# Altium footprint library MSB-PCB-1R1.PcbLib: 24 footprints (part 1 of 2)
Each footprint in its own frame and in the unit in brackets; x right, y up, seen from the top. Pads: shape width x height; smd on the part's side, far side on the other; paste and mask are expansions set on the pad; w line width, h text height; cw(c..) or ccw(c..) is an arc to the next point about the centre after c.
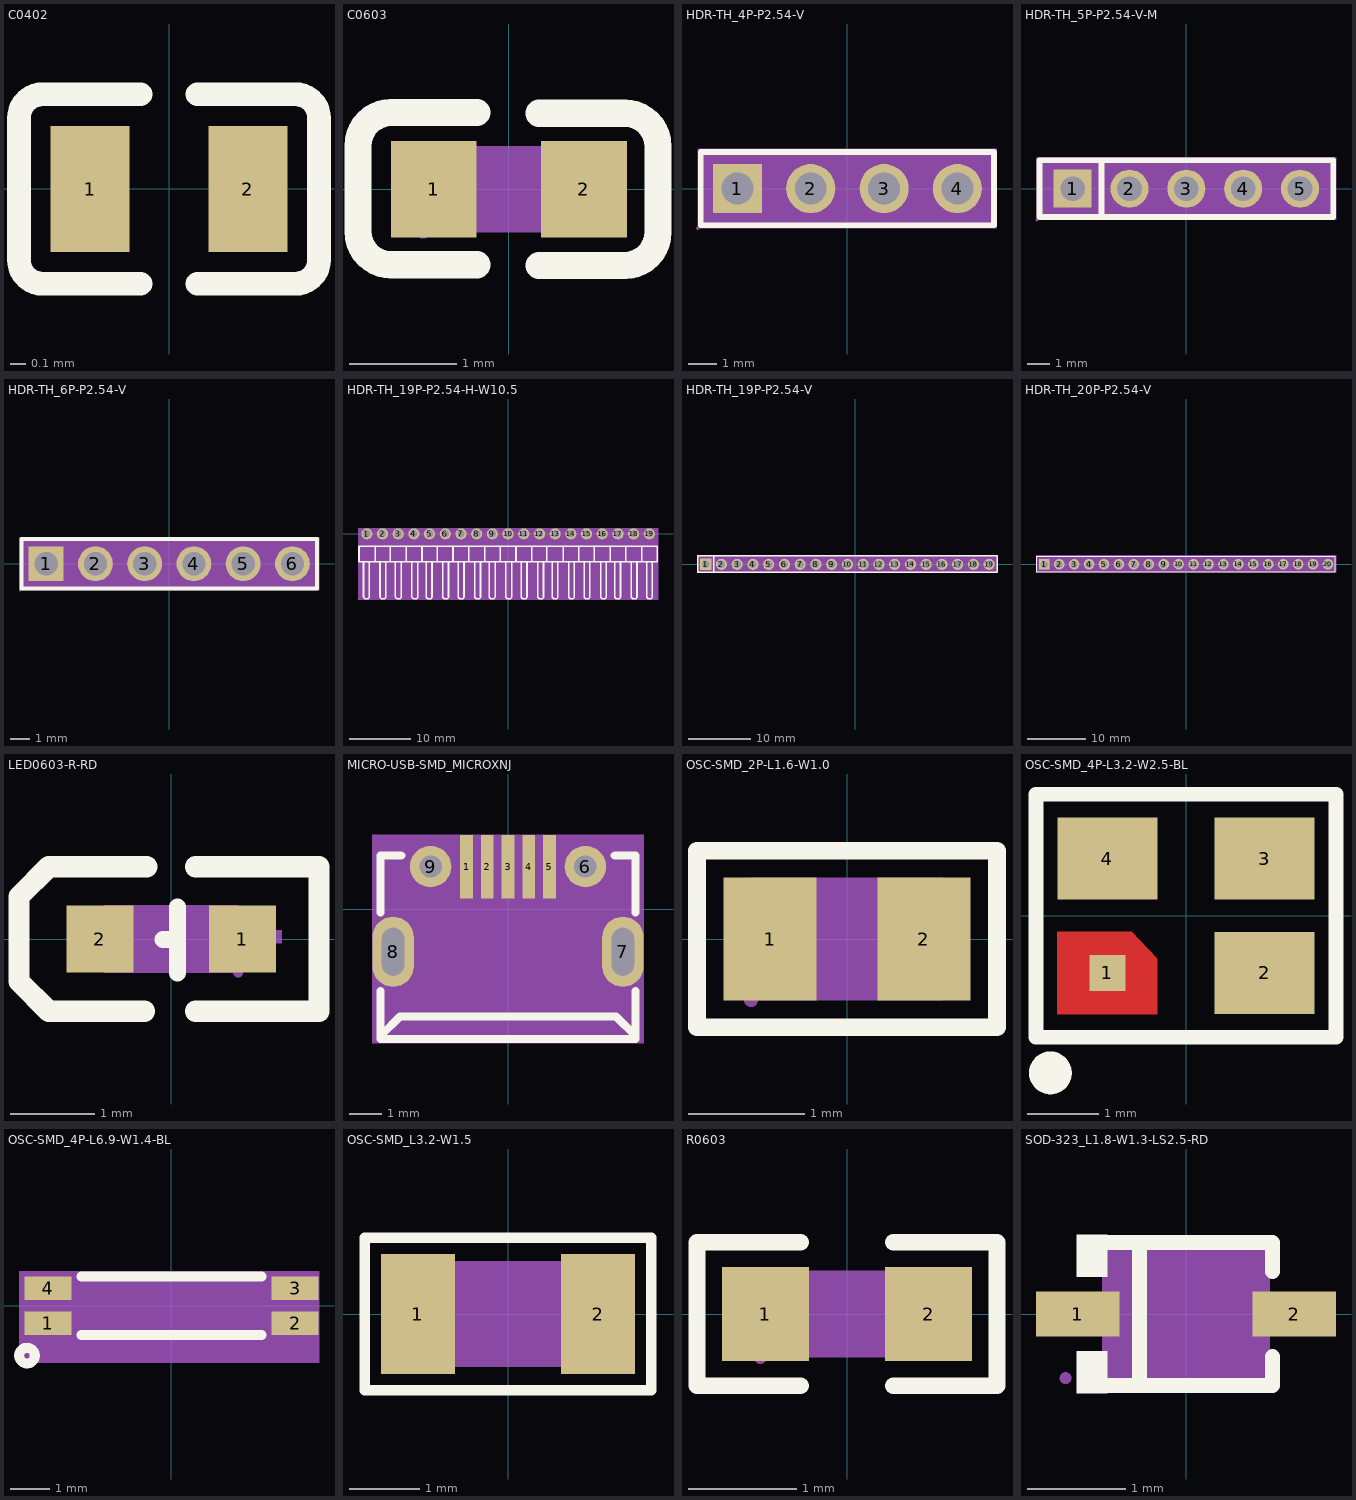
[diagram p0: the footprints below, top view; thin cyan lines are the x and y axes]

## C0402 [mm]
pads (2):
  rect 0.5x0.8 smd: 1(-0.5,0) 2(0.5,0)
Top Overlay:
  lines w0.15: -0.18,-0.6 -0.8,-0.6 cw(c-0.8,-0.45) -0.95,-0.45 -0.95,-0.4 -0.95,0.4 -0.95,0.45 cw(c-0.8,0.45) -0.8,0.6 -0.18,0.6 ; 0.18,-0.6 0.8,-0.6 ccw(c0.8,-0.45) 0.95,-0.45 0.95,-0.4 0.95,0.4 0.95,0.45 ccw(c0.8,0.45) 0.8,0.6 0.18,0.6

## C0603 [mm]
pads (2):
  rect 0.8x0.9 smd: 1(-0.7,0) 2(0.7,0)
Top Overlay:
  lines w0.254: -0.296,-0.704 -1.096,-0.704 cw(c-1.096,-0.394) -1.406,-0.394 -1.405,0.406 cw(c-1.096,0.406) -1.096,0.715 -0.296,0.715 ; 0.28,-0.71 1.08,-0.71 ccw(c1.08,-0.4) 1.39,-0.4 1.39,0.4 ccw(c1.08,0.4) 1.08,0.71 0.28,0.71
Mechanical 4:
  region: -0.8,-0.4 -0.8,0.4 0.8,0.4 0.8,-0.4
Mechanical 5:
  region: -0.8,-0.4 -0.8,0.4 -0.5,0.4 -0.5,-0.4
  region: 0.8,-0.4 0.8,0.4 0.5,0.4 0.5,-0.4
Mechanical 6:
  circle w0.06: c-0.8,-0.4 r0.03

## HDR-TH_4P-P2.54-V [mm]
pads (4):
  rect 1.7x1.7 hole 1.1: 1(-3.81,0)
  round 1.7 hole 1.1: 2(-1.27,0) 3(1.27,0) 4(3.81,0)
Top Overlay:
  lines w0.203: -5.08,-1.27 -5.08,1.27 -3.175,1.27 5.08,1.27 5.08,-1.27 -5.08,-1.27
Mechanical 4:
  region: -5.182,1.372 5.182,1.372 5.182,-1.372 -5.182,-1.372
Mechanical 5:
  circle w0.45: c3.81,0 r0.225
  circle w0.45: c1.27,0 r0.225
  circle w0.45: c-1.27,0 r0.225
  circle w0.45: c-3.81,0 r0.225
Mechanical 6:
  circle w0.06: c-5.182,-1.372 r0.03

## HDR-TH_5P-P2.54-V-M [mm]
pads (5):
  rect 1.7x1.7 hole 1.1: 1(-5.08,0)
  round 1.7 hole 1.1: 2(-2.54,0) 3(0,0) 4(2.54,0) 5(5.08,0)
Top Overlay:
  lines w0.254: -3.786,-1.27 -3.786,1.27 ; -6.56,-1.27 -6.56,1.27 6.56,1.27 6.56,-1.27 -6.56,-1.27
Mechanical 4:
  region: -6.687,1.397 6.687,1.397 6.687,-1.397 -6.687,-1.397
Mechanical 5:
  circle w0.45: c5.08,0 r0.225
  circle w0.45: c2.54,0 r0.225
  circle w0.45: c0,0 r0.225
  circle w0.45: c-2.54,0 r0.225
  circle w0.45: c-5.08,0 r0.225
Mechanical 6:
  circle w0.06: c-6.687,-1.397 r0.03

## HDR-TH_6P-P2.54-V [mm]
pads (6):
  rect 1.8x1.8 hole 1.2: 1(-6.35,0)
  round 1.8 hole 1.2: 2(-3.81,0) 3(-1.27,0) 4(1.27,0) 5(3.81,0) 6(6.35,0)
Top Overlay:
  lines w0.203: -7.62,-1.27 7.62,-1.27 7.62,1.27 -5.715,1.27 -7.62,1.27 -7.62,-1.27
Mechanical 4:
  region: -7.722,1.372 7.722,1.372 7.722,-1.372 -7.722,-1.372
Mechanical 5:
  circle w0.5: c-6.35,0 r0.25
  circle w0.5: c-3.81,0 r0.25
  circle w0.5: c-1.27,0 r0.25
  circle w0.5: c1.27,0 r0.25
  circle w0.5: c3.81,0 r0.25
  circle w0.5: c6.35,0 r0.25
Mechanical 6:
  circle w0.06: c-7.722,-1.372 r0.03

## HDR-TH_19P-P2.54-H-W10.5 [mm]
pads (19):
  round 1.8 hole 1.2: 1(-22.86,0) 2(-20.32,0) 3(-17.78,0) 4(-15.24,0) 5(-12.7,0) 6(-10.16,0) 7(-7.62,0) 8(-5.08,0) 9(-2.54,0) 10(0,0) 11(2.54,0) 12(5.08,0) 13(7.62,0) 14(10.16,0) 15(12.7,0) 16(15.24,0) 17(17.78,0) 18(20.32,0) 19(22.86,0)
Top Overlay:
  lines w0.254: -23.402,-4.5 -23.402,-10.264 -23.166,-10.5 -22.692,-10.5 -22.479,-10.287 -22.479,-4.5 ; -21.511,-4.5 -21.511,-2 ; -20.73,-4.5 -20.73,-10.264 -20.494,-10.5 ; -20.495,-10.5 -20.02,-10.5 -19.807,-10.287 -19.807,-6.54 -19.807,-4.501 ; -19.073,-4.5 -19.073,-2 ; -18.23,-4.5 -18.23,-10.264 -17.994,-10.5 -17.52,-10.5 -17.307,-10.287 -17.307,-4.5 ; -16.499,-4.5 -16.499,-2 ; -15.558,-4.5 -15.558,-10.264 -15.322,-10.5 -14.848,-10.5 -14.635,-10.287 -14.635,-4.5 ; -13.925,-4.5 -13.925,-2 ; -13.23,-4.5 -13.23,-10.264 -12.994,-10.5 -12.52,-10.5 -12.307,-10.287 -12.307,-4.5 ; -11.487,-4.5 -11.487,-2 ; -10.558,-4.5 -10.558,-10.264 -10.322,-10.5 -9.848,-10.5 -9.635,-10.287 -9.635,-6.541 -9.635,-4.501 ; -8.913,-4.5 -8.913,-2 ; -8.058,-4.5 -8.058,-10.264 -7.822,-10.5 -7.348,-10.5 -7.135,-10.287 -7.135,-4.5 ; -6.373,-4.5 -6.373,-2 ; -5.386,-4.5 -5.386,-10.264 -5.15,-10.5 -4.676,-10.5 -4.463,-10.287 -4.463,-4.5 ; -3.765,-4.5 -3.765,-2 ; -3.03,-4.5 -3.03,-10.264 -2.794,-10.5 -2.32,-10.5 -2.107,-10.287 -2.107,-4.5 ; -1.293,-4.5 -1.293,-2 ; -0.358,-4.5 -0.358,-10.264 -0.122,-10.5 0.352,-10.5 0.565,-10.287 0.565,-6.542 0.565,-4.5 ; 1.281,-4.5 1.281,-2 ; 2.142,-4.5 2.142,-10.264 2.378,-10.5 2.852,-10.5 3.065,-10.287 3.065,-4.5 ; 3.855,-4.5 3.855,-2 ; 4.814,-4.5 4.814,-10.264 5.05,-10.5 5.524,-10.5 5.737,-10.287 5.737,-4.5 ; 6.293,-4.5 6.293,-2 ; 7.142,-4.5 7.142,-10.264 7.378,-10.5 7.852,-10.5 8.065,-10.287 8.065,-4.5 ; 8.901,-4.5 8.901,-2 ; 9.814,-4.5 9.814,-10.264 10.05,-10.5 ; 10.049,-10.5 10.524,-10.5 10.737,-10.287 10.737,-6.54 10.737,-4.501 ; 11.475,-4.5 11.475,-2 ; 12.314,-4.5 12.314,-10.264 12.55,-10.5 13.024,-10.5 13.237,-10.287 13.237,-4.5 ; 13.981,-4.5 13.981,-2 ; 14.986,-4.5 14.986,-10.264 15.222,-10.5 15.697,-10.5 15.91,-10.287 15.91,-4.5 ; 16.555,-4.5 16.555,-2 ; 17.27,-4.5 17.27,-10.264 17.506,-10.5 17.98,-10.5 18.193,-10.287 18.193,-4.5 ; 19.027,-4.5 19.027,-2 ; 19.942,-4.5 19.942,-10.264 20.178,-10.5 ; 20.865,-4.501 20.865,-6.54 ; 21.635,-4.5 21.635,-2 ; 22.442,-4.5 22.442,-10.264 22.678,-10.5 23.152,-10.5 23.365,-10.287 23.365,-4.5 ; 24.13,-4.5 -24.13,-4.5 -24.13,-2 24.13,-2 ; 24.141,-4.5 24.141,-2 ; 20.652,-10.5 20.177,-10.5 20.652,-10.5 ; 20.652,-10.5 20.865,-10.287 ; 20.652,-10.5 20.865,-10.287 ; 20.865,-10.287 20.865,-6.54 ; 20.865,-10.287 20.865,-6.54
Mechanical 4:
  region: -24.257,0.9 24.268,0.9 24.268,-10.627 -24.257,-10.627
Mechanical 5:
  circle w0.5: c-22.86,0 r0.25
  circle w0.5: c-20.32,0 r0.25
  circle w0.5: c-17.78,0 r0.25
  circle w0.5: c-15.24,0 r0.25
  circle w0.5: c-12.7,0 r0.25
  circle w0.5: c-10.16,0 r0.25
  circle w0.5: c-7.62,0 r0.25
  circle w0.5: c-5.08,0 r0.25
  circle w0.5: c-2.54,0 r0.25
  circle w0.5: c0,0 r0.25
  circle w0.5: c2.54,0 r0.25
  circle w0.5: c5.08,0 r0.25
  circle w0.5: c7.62,0 r0.25
  circle w0.5: c10.16,0 r0.25
  circle w0.5: c12.7,0 r0.25
  circle w0.5: c15.24,0 r0.25
  circle w0.5: c17.78,0 r0.25
  circle w0.5: c20.32,0 r0.25
  circle w0.5: c22.86,0 r0.25
Mechanical 6:
  circle w0.06: c-24.257,-10.627 r0.03

## HDR-TH_19P-P2.54-V [mm]
pads (19):
  rect 1.8x1.8 hole 1.2: 1(-24.13,0)
  round 1.8 hole 1.2: 2(-21.59,0) 3(-19.05,0) 4(-16.51,0) 5(-13.97,0) 6(-11.43,0) 7(-8.89,0) 8(-6.35,0) 9(-3.81,0) 10(-1.27,0) 11(1.27,0) 12(3.81,0) 13(6.35,0) 14(8.89,0) 15(11.43,0) 16(13.97,0) 17(16.51,0) 18(19.05,0) 19(21.59,0)
Top Overlay:
  lines w0.203: -22.86,-1.27 -22.86,1.397 ; -25.4,-1.27 -25.4,1.397 22.86,1.397 22.86,0.635 22.86,-1.27 -25.4,-1.27
Mechanical 4:
  region: -25.502,1.499 22.86,1.499 22.86,-1.372 -25.502,-1.372
Mechanical 5:
  circle w0.5: c21.59,0 r0.25
  circle w0.5: c19.05,0 r0.25
  circle w0.5: c16.51,0 r0.25
  circle w0.5: c13.97,0 r0.25
  circle w0.5: c11.43,0 r0.25
  circle w0.5: c8.89,0 r0.25
  circle w0.5: c6.35,0 r0.25
  circle w0.5: c3.81,0 r0.25
  circle w0.5: c1.27,0 r0.25
  circle w0.5: c-1.27,0 r0.25
  circle w0.5: c-3.81,0 r0.25
  circle w0.5: c-6.35,0 r0.25
  circle w0.5: c-8.89,0 r0.25
  circle w0.5: c-11.43,0 r0.25
  circle w0.5: c-13.97,0 r0.25
  circle w0.5: c-16.51,0 r0.25
  circle w0.5: c-19.05,0 r0.25
  circle w0.5: c-21.59,0 r0.25
  circle w0.5: c-24.13,0 r0.25
Mechanical 6:
  circle w0.06: c-25.502,-1.372 r0.03

## HDR-TH_20P-P2.54-V [mm]
pads (20):
  rect 1.8x1.8 hole 1.2: 1(-24.13,0)
  round 1.8 hole 1.2: 2(-21.59,0) 3(-19.05,0) 4(-16.51,0) 5(-13.97,0) 6(-11.43,0) 7(-8.89,0) 8(-6.35,0) 9(-3.81,0) 10(-1.27,0) 11(1.27,0) 12(3.81,0) 13(6.35,0) 14(8.89,0) 15(11.43,0) 16(13.97,0) 17(16.51,0) 18(19.05,0) 19(21.59,0) 20(24.13,0)
Top Overlay:
  lines w0.203: -25.4,-1.27 25.4,-1.27 25.4,1.27 25.4,1.397 -25.4,1.397 -25.4,-1.27
Mechanical 4:
  region: -25.502,1.499 25.502,1.499 25.502,-1.372 -25.502,-1.372
Mechanical 5:
  circle w0.5: c-24.13,0 r0.25
  circle w0.5: c-21.59,0 r0.25
  circle w0.5: c-19.05,0 r0.25
  circle w0.5: c-16.51,0 r0.25
  circle w0.5: c-13.97,0 r0.25
  circle w0.5: c-11.43,0 r0.25
  circle w0.5: c-8.89,0 r0.25
  circle w0.5: c-6.35,0 r0.25
  circle w0.5: c-3.81,0 r0.25
  circle w0.5: c-1.27,0 r0.25
  circle w0.5: c1.27,0 r0.25
  circle w0.5: c3.81,0 r0.25
  circle w0.5: c6.35,0 r0.25
  circle w0.5: c8.89,0 r0.25
  circle w0.5: c11.43,0 r0.25
  circle w0.5: c13.97,0 r0.25
  circle w0.5: c16.51,0 r0.25
  circle w0.5: c19.05,0 r0.25
  circle w0.5: c21.59,0 r0.25
  circle w0.5: c24.13,0 r0.25
Mechanical 6:
  circle w0.06: c-25.502,-1.372 r0.03

## LED0603-R-RD [mm]
pads (2):
  rect 0.8x0.8 smd: 1(0.851,0) 2(-0.851,0)
Top Overlay:
  lines w0.203: -0.099,-0.008 0.076,-0.008 ; 0.076,-0.406 0.076,0.381
  lines w0.254: -0.318,-0.864 -1.46,-0.864 -1.816,-0.508 -1.816,0.508 -1.46,0.864 -0.292,0.864 ; 0.292,-0.864 1.765,-0.864 1.765,0.864 0.292,0.864
Mechanical 4:
  region: -0.8,0.4 0.8,0.4 0.8,-0.4 -0.8,-0.4
Mechanical 5:
  region: 0.8,0.4 0.8,-0.4 0.5,-0.4 0.5,0.4
  region: -0.8,-0.4 -0.8,0.4 -0.5,0.4 -0.5,-0.4
Mechanical 6:
  circle w0.06: c0.8,-0.4 r0.03
Mechanical 15:
  region: 0.66,0.102 1.321,0.102 1.321,-0.051 0.66,-0.051
  region: 0.936,-0.275 0.936,0.385 1.088,0.385 1.088,-0.275
  region: -1.193,0.05 -0.533,0.05 -0.533,-0.103 -1.193,-0.103

## MICRO-USB-SMD_MICROXNJ [mm]
pads (9):
  rect 0.4x2 smd mask+0: 1(-1.3,1.327) 2(-0.65,1.327) 3(0,1.327) 4(0.65,1.327) 5(1.3,1.327)
  round 1.3 hole 0.7: 6(2.425,1.335) 9(-2.425,1.335)
  oval 1.3x2.2 hole 0.7 slot 1.5 at 90 deg: 7(3.6,-1.335) 8(-3.6,-1.335)
Top Overlay:
  lines w0.254: -4,-4.073 4,-4.073 4,-2.57 ; -4,-4.052 -4,-2.57 ; -4,-0.1 -4,1.677 -3.344,1.677 ; -3.97,-4.052 -3.97,-3.953 -3.38,-3.363 3.39,-3.363 3.98,-3.953 3.98,-4.073 ; 3.344,1.677 4,1.677 4,-0.1
Mechanical 4:
  region: -4.25,2.328 4.25,2.328 4.25,-4.2 -4.25,-4.2
Mechanical 5:
  region: 1.1,2.327 1.5,2.327 1.5,0.327 1.1,0.327
  region: 0.45,2.327 0.85,2.327 0.85,0.327 0.45,0.327
  region: -0.2,2.327 0.2,2.327 0.2,0.327 -0.2,0.327
  region: -0.85,2.327 -0.45,2.327 -0.45,0.327 -0.85,0.327
  region: -1.5,2.327 -1.1,2.327 -1.1,0.327 -1.5,0.327

## OSC-SMD_2P-L1.6-W1.0 [mm]
pads (2):
  rect 0.8x1.06 smd: 1(-0.66,0) 2(0.66,0)
Top Overlay:
  lines w0.152: -1.289,-0.759 1.289,-0.759 1.289,0.759 -1.289,0.759 -1.289,-0.759
Mechanical 4:
  region: -0.825,-0.525 -0.825,0.525 0.825,0.525 0.825,-0.525
Mechanical 5:
  region: 0.36,-0.43 0.36,0.43 0.76,0.43 0.76,-0.43
  region: -0.36,-0.43 -0.36,0.43 -0.76,0.43 -0.76,-0.43
Mechanical 6:
  circle w0.06: c-0.825,-0.525 r0.03

## OSC-SMD_4P-L3.2-W2.5-BL [mm]
pads (4):
  rect 0.508x0.508 smd: 1(-1.1,-0.8)
  rect 1.4x1.15 smd: 2(1.1,-0.8) 3(1.1,0.8) 4(-1.1,0.8)
Top Layer:
  region: -1.8,-0.225 -0.762,-0.225 -0.4,-0.604 -0.4,-1.375 -1.8,-1.375
Top Overlay:
  lines w0.203: -2.1,-1.7 -2.1,1.7 2.1,1.7 2.1,-1.7 -2.1,-1.7
  lines w0.3: -1.9,-2.05 ccw(c-1.899,-2.2) -1.897,-2.05
Top Paste:
  region: -1.8,-0.225 -0.762,-0.225 -0.4,-0.604 -0.4,-1.375 -1.8,-1.375
Top Solder:
  region: -1.8,-0.225 -0.762,-0.225 -0.4,-0.604 -0.4,-1.375 -1.8,-1.375

## OSC-SMD_4P-L6.9-W1.4-BL [mm]
pads (4):
  rect 1.2x0.6 smd: 1(-3.15,-0.45) 2(3.15,-0.45) 3(3.15,0.45) 4(-3.15,0.45)
Top Overlay:
  circle w0.254: c-3.683,-1.27 r0.2
  lines w0.254: -2.3,-0.75 2.3,-0.75 ; -2.3,0.75 2.3,0.75
Mechanical 4:
  region: -3.886,0.877 3.759,0.877 3.759,-1.448 -3.886,-1.448
Mechanical 5:
  region: -3.75,-0.15 -2.55,-0.15 -2.55,-0.75 -3.75,-0.75
  region: 2.55,-0.15 3.75,-0.15 3.75,-0.75 2.55,-0.75
  region: 2.55,0.75 3.75,0.75 3.75,0.15 2.55,0.15
  region: -3.75,0.75 -2.55,0.75 -2.55,0.15 -3.75,0.15

## OSC-SMD_L3.2-W1.5 [mm]
pads (2):
  rect 1.05x1.7 smd: 1(-1.275,0) 2(1.275,0)
Top Overlay:
  lines w0.152: -2.029,-1.079 2.029,-1.079 2.029,1.079 -2.029,1.079 -2.029,-1.079
Mechanical 4:
  region: -1.6,-0.75 -1.6,0.75 1.6,0.75 1.6,-0.75
Mechanical 5:
  region: 0.85,-0.75 0.85,0.75 1.5,0.75 1.5,-0.75
  region: -0.85,-0.75 -0.85,0.75 -1.5,0.75 -1.5,-0.75
Mechanical 6:
  circle w0.06: c-1.6,-0.75 r0.03

## R0603 [mm]
pads (2):
  rect 0.806x0.864 smd: 1(-0.753,0) 2(0.753,0)
Top Overlay:
  lines w0.152: -0.426,-0.661 -1.385,-0.661 -1.385,0.661 -0.426,0.661 ; 0.426,-0.661 1.385,-0.661 1.385,0.661 0.426,0.661
Top Paste:
  region: 1.195,0.45 0.395,0.45 0.345,0.4 0.345,0.172 0.715,0.172 0.715,-0.158 0.345,-0.158 0.345,-0.4 0.395,-0.45 1.195,-0.45 1.245,-0.4 1.245,0.4
  region: -0.355,0.4 -0.355,0.172 -0.735,0.172 -0.735,-0.158 -0.355,-0.158 -0.355,-0.4 -0.405,-0.45 -1.195,-0.45 -1.245,-0.4 -1.245,0.4 -1.195,0.45 -0.405,0.45
Mechanical 4:
  region: -0.8,-0.4 -0.8,0.4 0.8,0.4 0.8,-0.4
Mechanical 5:
  region: -0.8,-0.4 -0.8,0.4 -0.5,0.4 -0.5,-0.4
  region: 0.8,-0.4 0.8,0.4 0.5,0.4 0.5,-0.4
Mechanical 6:
  circle w0.06: c-0.8,-0.4 r0.03

## SOD-323_L1.8-W1.3-LS2.5-RD [mm]
pads (2):
  rect 0.845x0.455 smd: 1(-1.098,0) 2(1.098,0)
Top Overlay:
  region: -0.8,0.802 -0.8,0.38 -1.105,0.38 -1.105,0.802
  region: -0.8,-0.802 -0.8,-0.38 -1.105,-0.38 -1.105,-0.802
  lines w0.152: -0.876,-0.726 0.876,-0.726 0.876,-0.431 ; -0.876,0.726 0.876,0.726 0.876,0.431 ; -0.472,-0.726 -0.472,0.726
Mechanical 4:
  region: 0.85,0.65 0.85,-0.65 -0.85,-0.65 -0.85,0.65
Mechanical 5:
  pour cut-out: -0.84,0.16 -0.84,-0.16 -0.96,-0.16 -0.96,0.16
  region: -0.95,0.16 -0.95,-0.16 -1.25,-0.16 -1.25,0.16
  pour cut-out: 0.96,0.16 0.96,-0.16 0.84,-0.16 0.84,0.16
  region: 1.25,0.16 1.25,-0.16 0.95,-0.16 0.95,0.16
Mechanical 6:
  circle w0.06: c-1.22,-0.65 r0.03
Mechanical 15:
  region: -0.644,0.078 -0.644,-0.078 -0.02,-0.078 -0.02,0.078
  region: 0.644,0.078 0.644,-0.078 0.02,-0.078 0.02,0.078
  region: 0.41,0.52 0.41,-0.52 0.254,-0.52 0.254,0.52